# EAGLE library part IF_VIDEO_BRIDGE_RK628F/H (library !GPLIB_ACTIVE)
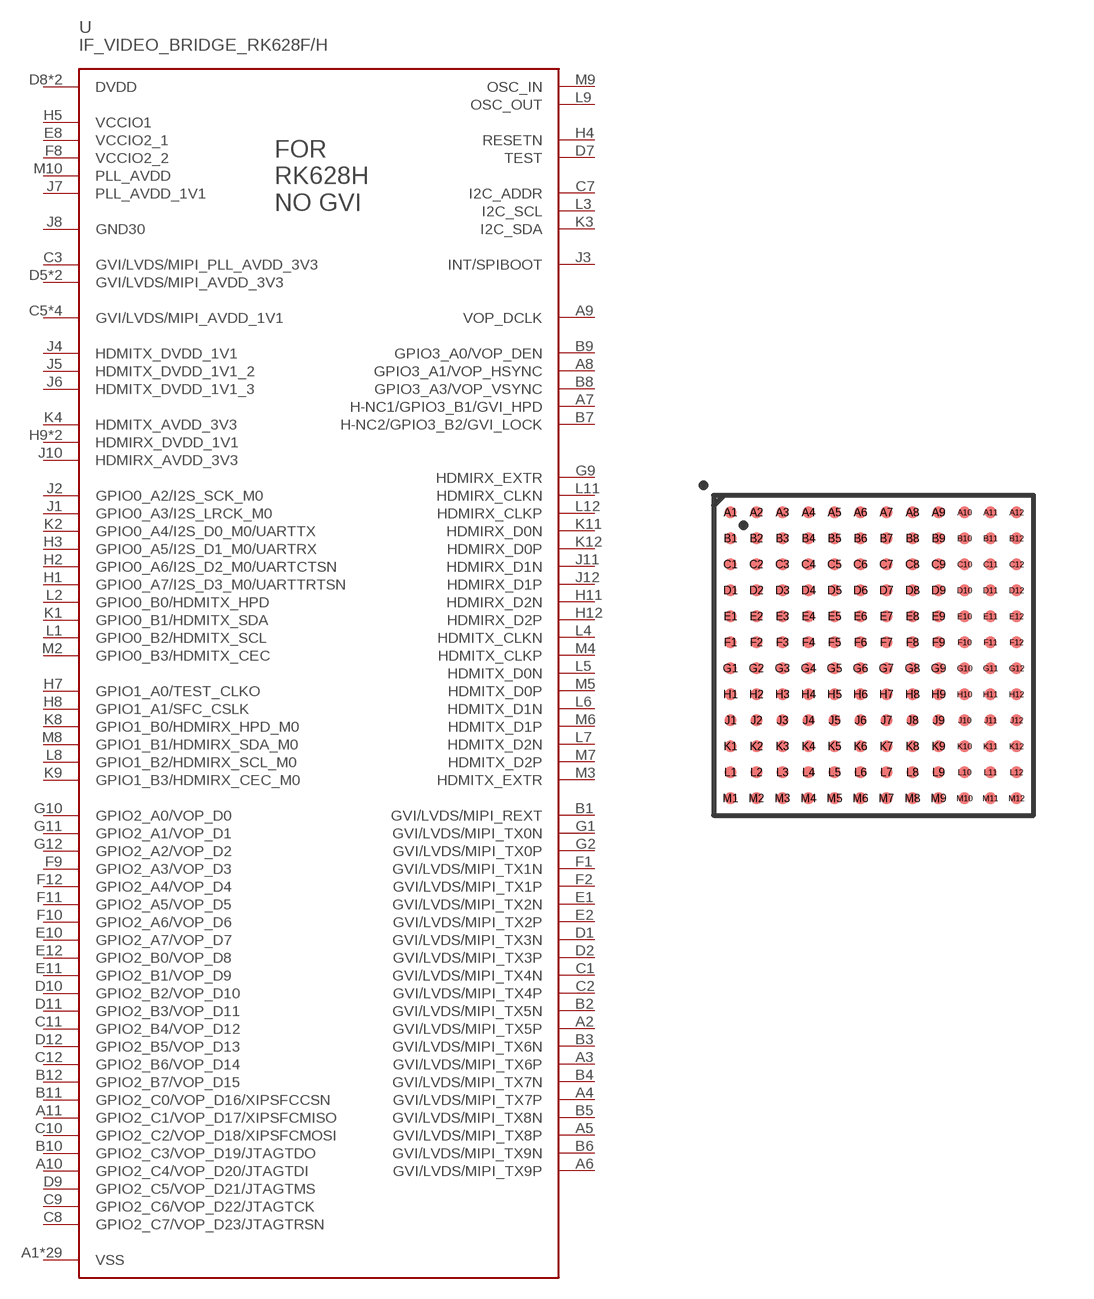
[diagram p55: symbol with the pads of WBBGA144_8X8MM; footprint WBBGA144_8X8MM]

Designator prefix U

## IF_VIDEO_BRIDGE_RK628F/H_RK628F  [WBBGA144_8X8MM]
A1  VSS  pwr
A2  GVI/LVDS/MIPI_TX5P
A3  GVI/LVDS/MIPI_TX6P
A4  GVI/LVDS/MIPI_TX7P
A5  GVI/LVDS/MIPI_TX8P
A6  GVI/LVDS/MIPI_TX9P
A7  H-NC1/GPIO3_B1/GVI_HPD
A8  GPIO3_A1/VOP_HSYNC
A9  VOP_DCLK
A10  GPIO2_C4/VOP_D20/JTAGTDI
A11  GPIO2_C1/VOP_D17/XIPSFCMISO
A12  VSS  pwr
B1  GVI/LVDS/MIPI_REXT
B2  GVI/LVDS/MIPI_TX5N
B3  GVI/LVDS/MIPI_TX6N
B4  GVI/LVDS/MIPI_TX7N
B5  GVI/LVDS/MIPI_TX8N
B6  GVI/LVDS/MIPI_TX9N
B7  H-NC2/GPIO3_B2/GVI_LOCK
B8  GPIO3_A3/VOP_VSYNC
B9  GPIO3_A0/VOP_DEN
B10  GPIO2_C3/VOP_D19/JTAGTDO
B11  GPIO2_C0/VOP_D16/XIPSFCCSN
B12  GPIO2_B7/VOP_D15
C1  GVI/LVDS/MIPI_TX4N
C2  GVI/LVDS/MIPI_TX4P
C3  GVI/LVDS/MIPI_PLL_AVDD_3V3  pwr
C4  VSS  pwr
C5  GVI/LVDS/MIPI_AVDD_1V1  pwr
C6  VSS  pwr
C7  I2C_ADDR
C8  GPIO2_C7/VOP_D23/JTAGTRSN
C9  GPIO2_C6/VOP_D22/JTAGTCK
C10  GPIO2_C2/VOP_D18/XIPSFCMOSI
C11  GPIO2_B4/VOP_D12
C12  GPIO2_B6/VOP_D14
D1  GVI/LVDS/MIPI_TX3N
D2  GVI/LVDS/MIPI_TX3P
D3  VSS  pwr
D4  GVI/LVDS/MIPI_AVDD_1V1  pwr
D5  GVI/LVDS/MIPI_AVDD_3V3  pwr
D6  VSS  pwr
D7  TEST
D8  DVDD  pwr
D9  GPIO2_C5/VOP_D21/JTAGTMS
D10  GPIO2_B2/VOP_D10
D11  GPIO2_B3/VOP_D11
D12  GPIO2_B5/VOP_D13
E1  GVI/LVDS/MIPI_TX2N
E2  GVI/LVDS/MIPI_TX2P
E3  GVI/LVDS/MIPI_AVDD_1V1  pwr
E4  GVI/LVDS/MIPI_AVDD_3V3  pwr
E5  VSS  pwr
E6  VSS  pwr
E7  VSS  pwr
E8  VCCIO2_1  pwr
E9  DVDD  pwr
E10  GPIO2_A7/VOP_D7
E11  GPIO2_B1/VOP_D9
E12  GPIO2_B0/VOP_D8
F1  GVI/LVDS/MIPI_TX1N
F2  GVI/LVDS/MIPI_TX1P
F3  GVI/LVDS/MIPI_AVDD_1V1  pwr
F4  VSS  pwr
F5  VSS  pwr
F6  VSS  pwr
F7  VSS  pwr
F8  VCCIO2_2  pwr
F9  GPIO2_A3/VOP_D3
F10  GPIO2_A6/VOP_D6
F11  GPIO2_A5/VOP_D5
F12  GPIO2_A4/VOP_D4
G1  GVI/LVDS/MIPI_TX0N
G2  GVI/LVDS/MIPI_TX0P
G3  VSS  pwr
G4  VSS  pwr
G5  VSS  pwr
G6  VSS  pwr
G7  VSS  pwr
G8  VSS  pwr
G9  HDMIRX_EXTR
G10  GPIO2_A0/VOP_D0
G11  GPIO2_A1/VOP_D1
G12  GPIO2_A2/VOP_D2
H1  GPIO0_A7/I2S_D3_M0/UARTTRTSN
H2  GPIO0_A6/I2S_D2_M0/UARTCTSN
H3  GPIO0_A5/I2S_D1_M0/UARTRX
H4  RESETN
H5  VCCIO1  pwr
H6  VSS  pwr
H7  GPIO1_A0/TEST_CLKO
H8  GPIO1_A1/SFC_CSLK
H9  HDMIRX_DVDD_1V1  pwr
H10  VSS  pwr
H11  HDMIRX_D2N
H12  HDMIRX_D2P
J1  GPIO0_A3/I2S_LRCK_M0
J2  GPIO0_A2/I2S_SCK_M0
J3  INT/SPIBOOT
J4  HDMITX_DVDD_1V1  pwr
J5  HDMITX_DVDD_1V1_2  pwr
J6  HDMITX_DVDD_1V1_3  pwr
J7  PLL_AVDD_1V1  pwr
J8  GND30  pwr
J9  HDMIRX_DVDD_1V1  pwr
J10  HDMIRX_AVDD_3V3  pwr
J11  HDMIRX_D1N
J12  HDMIRX_D1P
K1  GPIO0_B1/HDMITX_SDA
K2  GPIO0_A4/I2S_D0_M0/UARTTX
K3  I2C_SDA
K4  HDMITX_AVDD_3V3  pwr
K5  VSS  pwr
K6  VSS  pwr
K7  VSS  pwr
K8  GPIO1_B0/HDMIRX_HPD_M0
K9  GPIO1_B3/HDMIRX_CEC_M0
K10  VSS  pwr
K11  HDMIRX_D0N
K12  HDMIRX_D0P
L1  GPIO0_B2/HDMITX_SCL
L2  GPIO0_B0/HDMITX_HPD
L3  I2C_SCL
L4  HDMITX_CLKN
L5  HDMITX_D0N
L6  HDMITX_D1N
L7  HDMITX_D2N
L8  GPIO1_B2/HDMIRX_SCL_M0
L9  OSC_OUT
L10  VSS  pwr
L11  HDMIRX_CLKN
L12  HDMIRX_CLKP
M1  VSS  pwr
M2  GPIO0_B3/HDMITX_CEC
M3  HDMITX_EXTR
M4  HDMITX_CLKP
M5  HDMITX_D0P
M6  HDMITX_D1P
M7  HDMITX_D2P
M8  GPIO1_B1/HDMIRX_SDA_M0
M9  OSC_IN
M10  PLL_AVDD  pwr
M11  VSS  pwr
M12  VSS  pwr

## IF_VIDEO_BRIDGE_RK628F/H_RK628H  [WBBGA144_8X8MM]
Pads as for WBBGA144_8X8MM

## Footprint WBBGA144_8X8MM (pad centres in mm)
smd 0.3 x 0.3: A1 -3.575,3.575; A2 -2.925,3.575; A3 -2.275,3.575; A4 -1.625,3.575; A5 -0.975,3.575; A6 -0.325,3.575; A7 0.325,3.575; A8 0.975,3.575; A9 1.625,3.575; A10 2.275,3.575; A11 2.925,3.575; A12 3.575,3.575; B1 -3.575,2.925; B2 -2.925,2.925; B3 -2.275,2.925; B4 -1.625,2.925; B5 -0.975,2.925; B6 -0.325,2.925; B7 0.325,2.925; B8 0.975,2.925; B9 1.625,2.925; B10 2.275,2.925; B11 2.925,2.925; B12 3.575,2.925; C1 -3.575,2.275; C2 -2.925,2.275; C3 -2.275,2.275; C4 -1.625,2.275; C5 -0.975,2.275; C6 -0.325,2.275; C7 0.325,2.275; C8 0.975,2.275; C9 1.625,2.275; C10 2.275,2.275; C11 2.925,2.275; C12 3.575,2.275; D1 -3.575,1.625; D2 -2.925,1.625; D3 -2.275,1.625; D4 -1.625,1.625; D5 -0.975,1.625; D6 -0.325,1.625; D7 0.325,1.625; D8 0.975,1.625; D9 1.625,1.625; D10 2.275,1.625; D11 2.925,1.625; D12 3.575,1.625; E1 -3.575,0.975; E2 -2.925,0.975; E3 -2.275,0.975; E4 -1.625,0.975; E5 -0.975,0.975; E6 -0.325,0.975; E7 0.325,0.975; E8 0.975,0.975; E9 1.625,0.975; E10 2.275,0.975; E11 2.925,0.975; E12 3.575,0.975; F1 -3.575,0.325; F2 -2.925,0.325; F3 -2.275,0.325; F4 -1.625,0.325; F5 -0.975,0.325; F6 -0.325,0.325; F7 0.325,0.325; F8 0.975,0.325; F9 1.625,0.325; F10 2.275,0.325; F11 2.925,0.325; F12 3.575,0.325; G1 -3.575,-0.325; G2 -2.925,-0.325; G3 -2.275,-0.325; G4 -1.625,-0.325; G5 -0.975,-0.325; G6 -0.325,-0.325; G7 0.325,-0.325; G8 0.975,-0.325; G9 1.625,-0.325; G10 2.275,-0.325; G11 2.925,-0.325; G12 3.575,-0.325; H1 -3.575,-0.975; H2 -2.925,-0.975; H3 -2.275,-0.975; H4 -1.625,-0.975; H5 -0.975,-0.975; H6 -0.325,-0.975; H7 0.325,-0.975; H8 0.975,-0.975; H9 1.625,-0.975; H10 2.275,-0.975; H11 2.925,-0.975; H12 3.575,-0.975; J1 -3.575,-1.625; J2 -2.925,-1.625; J3 -2.275,-1.625; J4 -1.625,-1.625; J5 -0.975,-1.625; J6 -0.325,-1.625; J7 0.325,-1.625; J8 0.975,-1.625; J9 1.625,-1.625; J10 2.275,-1.625; J11 2.925,-1.625; J12 3.575,-1.625; K1 -3.575,-2.275; K2 -2.925,-2.275; K3 -2.275,-2.275; K4 -1.625,-2.275; K5 -0.975,-2.275; K6 -0.325,-2.275; K7 0.325,-2.275; K8 0.975,-2.275; K9 1.625,-2.275; K10 2.275,-2.275; K11 2.925,-2.275; K12 3.575,-2.275; L1 -3.575,-2.925; L2 -2.925,-2.925; L3 -2.275,-2.925; L4 -1.625,-2.925; L5 -0.975,-2.925; L6 -0.325,-2.925; L7 0.325,-2.925; L8 0.975,-2.925; L9 1.625,-2.925; L10 2.275,-2.925; L11 2.925,-2.925; L12 3.575,-2.925; M1 -3.575,-3.575; M2 -2.925,-3.575; M3 -2.275,-3.575; M4 -1.625,-3.575; M5 -0.975,-3.575; M6 -0.325,-3.575; M7 0.325,-3.575; M8 0.975,-3.575; M9 1.625,-3.575; M10 2.275,-3.575; M11 2.925,-3.575; M12 3.575,-3.575